# Altium footprint library EurorackParts.PcbLib: 8 footprints
Each footprint in its own frame and in the unit in brackets; x right, y up, seen from the top. Pads: shape width x height; smd on the part's side, far side on the other; paste and mask are expansions set on the pad; w line width, h text height; cw(c..) or ccw(c..) is an arc to the next point about the centre after c.
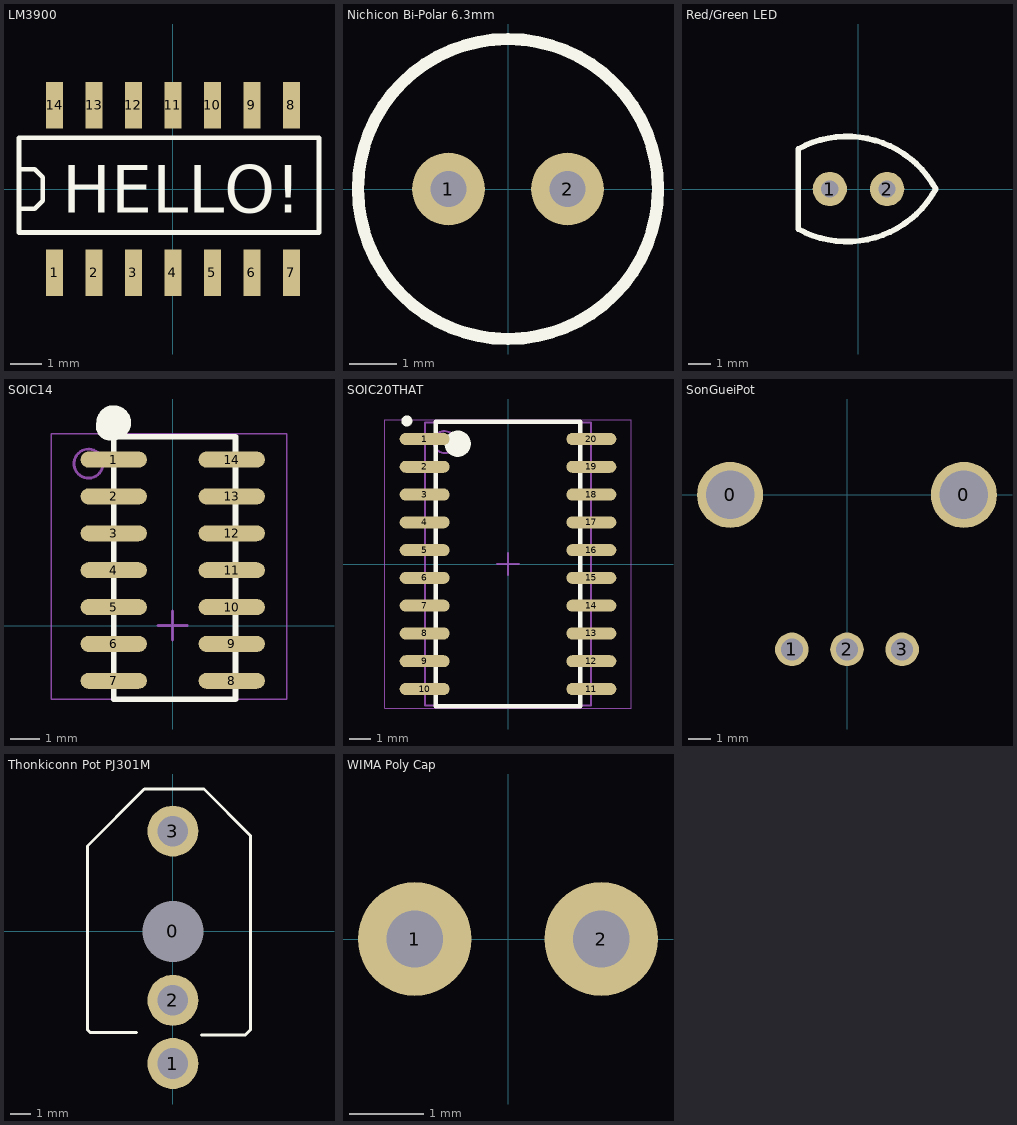
[diagram p0: the footprints below, top view; thin cyan lines are the x and y axes]

## LM3900 [mm] "LM3900 SOIC"
height 0.002
pads (14):
  rect 0.55x1.5 smd: 1(-3.81,-2.7) 2(-2.54,-2.7) 3(-1.27,-2.7) 4(0,-2.7) 5(1.27,-2.7) 6(2.54,-2.7) 7(3.81,-2.7) 8(3.81,2.7) 9(2.54,2.7) 10(1.27,2.7) 11(0,2.7) 12(-1.27,2.7) 13(-2.54,2.7) 14(-3.81,2.7)
Top Overlay:
  lines w0.152: -4.953,-0.635 -4.445,-0.635 -4.191,-0.381 -4.191,0.381 -4.445,0.635 -4.953,0.635 ; -4.953,-1.397 4.699,-1.397 4.699,1.651 -4.953,1.651 -4.953,-1.397
  text "HELLO!" at -3.556,-0.762 h1.52

## Nichicon Bi-Polar 6.3mm [mil]
height 433.07
pads (2):
  round 60 hole 30: 1(-49.21,0) 2(49.21,0)
Top Overlay:
  circle w10: c0,0 r124.02
3D body: height 433.07, standoff 0, extent -124.01,-123.89 124.02,123.89

## Red/Green LED [mil]
pads (2):
  round 60 hole 30: 1(-50,0) 2(50,0)
Top Overlay:
  lines w10: -105,-70 ccw(c-20,85) 135,0 ccw(c-20,-85) -105,70 -105,-70

## SOIC14 [mil]
pads (14):
  oval 90x21.65 smd: 1(-80,225) 2(-80,175) 3(-80,125) 4(-80,75) 5(-80,25) 6(-80,-25) 7(-80,-75) 8(80,-75) 9(80,-25) 10(80,25) 11(80,75) 12(80,125) 13(80,175) 14(80,225)
Top Overlay:
  circle w23.62: c-80,275 r11.81
  circle w9.84: c-85,270 r14.21
  lines w7.87: -80,-100 85,-100 85,255.91 -80,255.91 -80,-100
Mechanical 13:
  circle w3.94: c-114.17,219.49 r19.68
  lines w3.94: -80,-100 85,-100 85,254.92 -80,254.92 -80,-100
Mechanical 15:
  lines w1.97: -165,-100 155,-100 155,259.84 -165,259.84 -165,-100
  lines w3.94: -19.68,0 19.69,0 ; 0,-19.68 0,19.68
3D body: height 104.33, standoff 3.94, extent -80,-100 80,255

## SOIC20THAT [mil]
pads (20):
  oval 90x21.65 smd: 1(-150,225) 2(-150,175) 3(-150,125) 4(-150,75) 5(-150,25) 6(-150,-25) 7(-150,-75) 8(-150,-125) 9(-150,-175) 10(-150,-225) 11(150,-225) 12(150,-175) 13(150,-125) 14(150,-75) 15(150,-25) 16(150,25) 17(150,75) 18(150,125) 19(150,175) 20(150,225)
Top Overlay:
  circle w23.62: c-90.55,216.54 r11.81
  circle w9.84: c-182.09,257.48 r4.92
  lines w7.87: -129.92,-255.91 129.92,-255.91 129.92,255.91 -129.92,255.91 -129.92,-255.91
Mechanical 13:
  circle w3.94: c-114.17,219.49 r19.68
  lines w3.94: -149.61,-254.92 149.61,-254.92 149.61,254.92 -149.61,254.92 -149.61,-254.92
Mechanical 15:
  lines w1.97: -221.46,-259.84 221.46,-259.84 221.46,259.84 -221.46,259.84 -221.46,-259.84
  lines w3.94: -19.68,0 19.69,0 ; 0,-19.68 0,19.68
3D body: height 104.33, standoff 3.94, extent -149.61,-254.92 149.61,254.92

## SonGueiPot [mm]
pads (5):
  round 3 hole 2.2: 0(-5.3,0) 0(5.3,0)
  round 1.524 hole 1: 1(-2.5,-7) 2(0,-7) 3(2.5,-7)
3D body "9mmAlpha.step": height 20, standoff -3.8, extent -4.876,-7.235 4.876,5.315

## Thonkiconn Pot PJ301M [mm] "PJ301 Thonkicon Jack from Thonk"
height 0.368
pads (4):
  round 1.524 hole 3: 0(0,0)
  round 2.5 hole 1.5: 1(0,-6.48) 2(0,-3.38) 3(0,4.92)
Top Overlay:
  lines w0.152: -1.778,-4.953 -4.064,-4.953 -4.191,-4.826 -4.191,4.191 -1.397,6.985 1.524,6.985 3.81,4.699 3.81,-4.826 3.556,-5.08 1.397,-5.08
3D body "mj-3507.stp": height 14, standoff -5.6, extent -4.555,-10.286 4.445,5.714

## WIMA Poly Cap [mil]
height 295.28
pads (2):
  round 60 hole 30: 1(-49.21,0) 2(49.21,0)
3D body: height 295.28, standoff 0, extent -100,-50 95,50